# Altium footprint library converter 1000v.PcbLib: 25 footprints (part 1 of 2)
Each footprint in its own frame and in the unit in brackets; x right, y up, seen from the top. Pads: shape width x height; smd on the part's side, far side on the other; paste and mask are expansions set on the pad; w line width, h text height; cw(c..) or ccw(c..) is an arc to the next point about the centre after c.
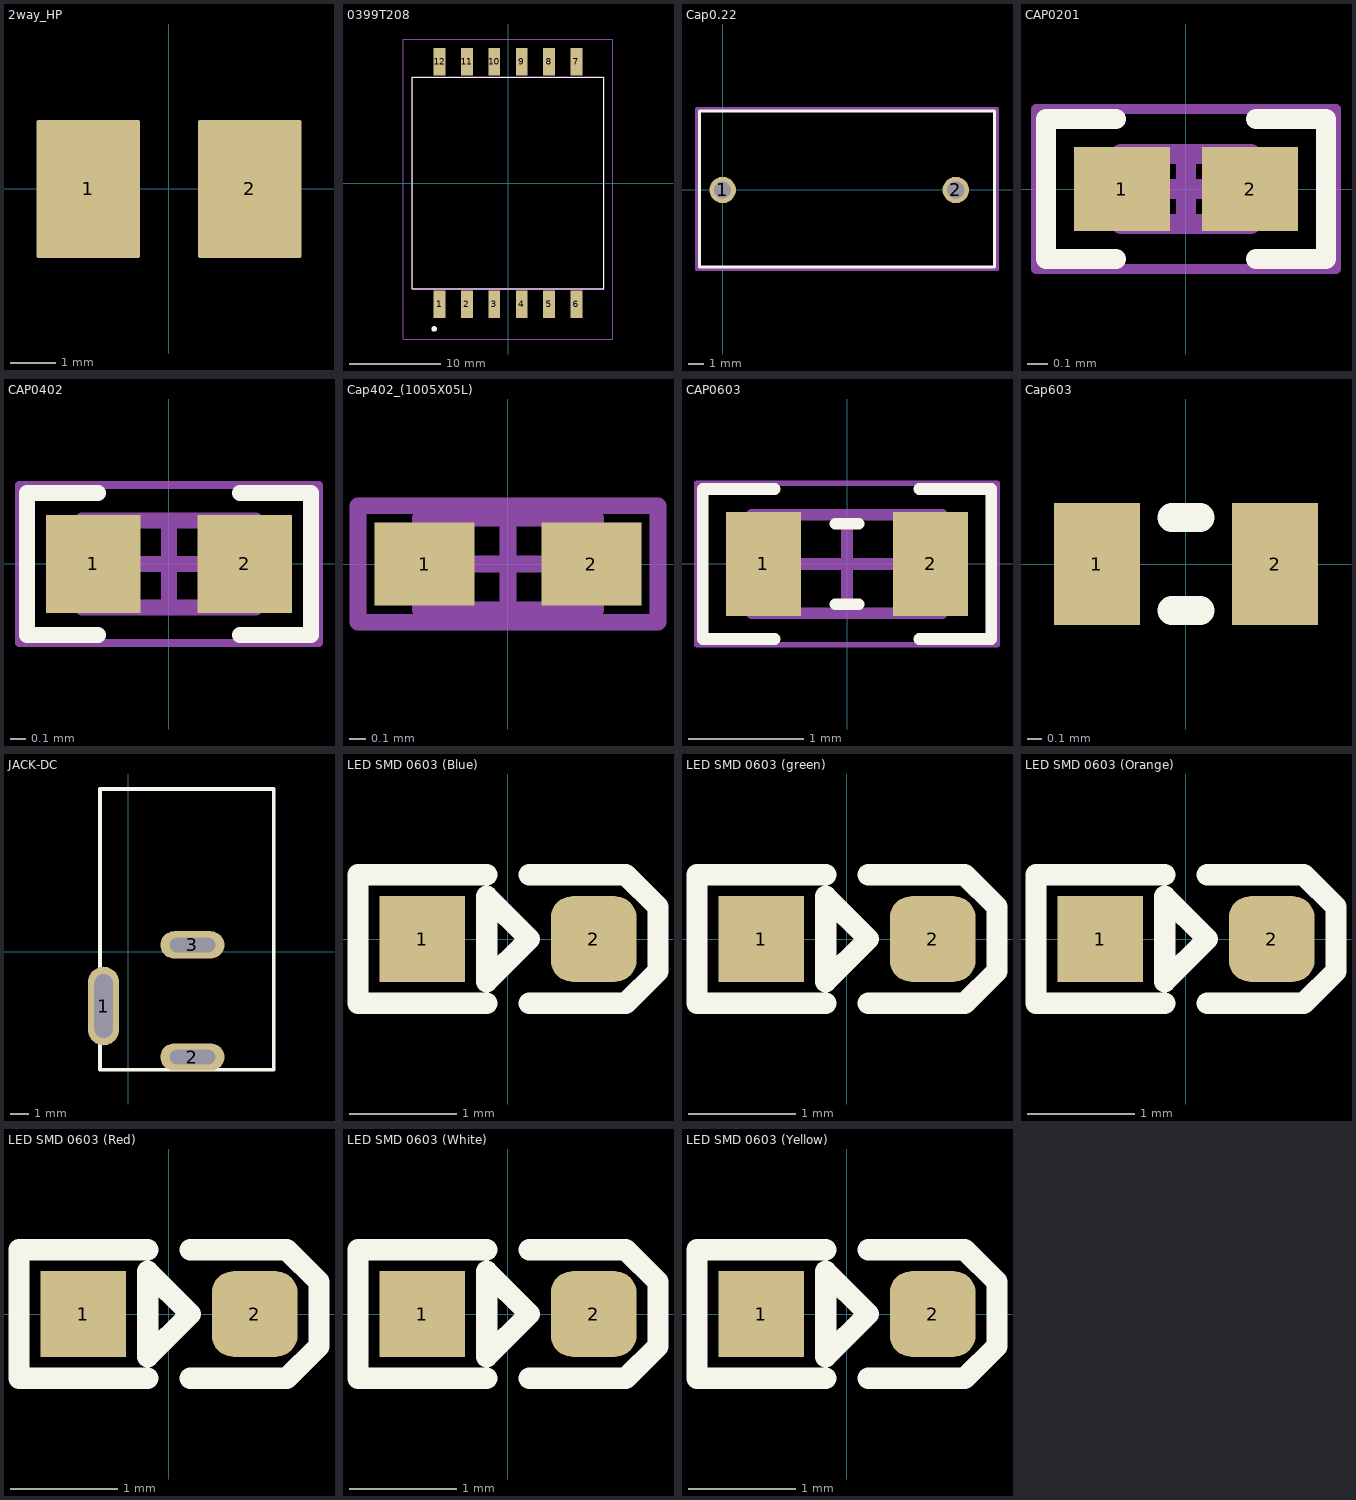
[diagram p0: the footprints below, top view; thin cyan lines are the x and y axes]

## 2way_HP [mil] "2 way high power power net tie junction"
height 1
pads (2):
  rrect5% 90x120 smd paste-100: 1(-70,0) 2(70,0)

## 0399T208 [mm]
pads (12):
  rect 1.3x3 smd: 1(-7.5,-13.3) 2(-4.5,-13.3) 3(-1.5,-13.3) 4(1.5,-13.3) 5(4.5,-13.3) 6(7.5,-13.3) 7(7.5,13.3) 8(4.5,13.3) 9(1.5,13.3) 10(-1.5,13.3) 11(-4.5,13.3) 12(-7.5,13.3)
Top Overlay:
  lines w0.1: -10.5,-11.6 -10.5,11.6 10.5,11.6 10.5,-11.6 -10.5,-11.6
  lines w0.4: -8.2,-16 ccw(c-8.1,-16) -8,-16 ccw(c-8.1,-16) -8.2,-16
Mechanical 13:
  lines w0.2: -10.5,-11.6 -10.5,11.6 10.5,11.6 10.5,-11.6 -10.5,-11.6
Mechanical 15:
  lines w0.1: -11.5,-17.1 -11.5,15.8 11.5,15.8 11.5,-17.1 -11.5,-17.1
3D body "0399-T208.stp": height 11.6, standoff -0.2, extent -10.5,-14.6 10.5,14.6

## Cap0.22 [mm]
pads (2):
  round 1.7 hole 1.1: 1(0,0) 2(15,0)
Top Overlay:
  lines w0.2: -1.5,-4.953 17.5,-4.953 17.5,5.08 -1.5,5.08 -1.5,-4.953
Mechanical 13:
  lines w0.254: -1.652,-5.08 17.652,-5.08 17.652,5.207 -1.652,5.207 -1.652,-5.08
3D body "User Library-CAP_POLY_15mm.step": height 16, standoff -4, extent -1.753,-3.936 17.247,4.064

## CAP0201 [mm] "Chip Capacitor, 2-Leads, Body 0/60x0/30mm, IPC Medium Density DESIGNER:ABBAS BASEREH"
height 0.23
pads (2):
  rect 0.48x0.42 smd mask+0.04: 1(-0.32,0) 2(0.32,0)
Top Overlay:
  lines w0.1: -0.35,-0.35 -0.7,-0.35 -0.7,0.35 -0.35,0.35 ; 0.35,-0.35 0.7,-0.35 0.7,0.35 0.35,0.35
Mechanical 13:
  lines w0.1: -0.325,-0.175 0.325,-0.175 0.325,0.175 -0.325,0.175 -0.325,-0.175
Mechanical 15:
  lines w0.05: -0.75,-0.4 0.75,-0.4 0.75,0.4 -0.75,0.4 -0.75,-0.4
  lines w0.1: -0.175,0 0.175,0 ; 0,-0.175 0,0.175
3D body "CAP0201.step": height 0.23, standoff 0, extent -0.325,-0.175 0.325,0.175

## CAP0402 [mm] "Chip Capacitor, 2-Leads, Body 1/00x0/50mm, IPC Medium Density DESIGNER:ABBAS BASEREH"
height 0.32
pads (2):
  rect 0.6x0.62 smd mask+0.06: 1(-0.48,0) 2(0.48,0)
Top Overlay:
  lines w0.1: -0.45,-0.45 -0.9,-0.45 -0.9,0.45 -0.45,0.45 ; 0.45,-0.45 0.9,-0.45 0.9,0.45 0.45,0.45
Mechanical 13:
  lines w0.1: -0.55,-0.275 0.55,-0.275 0.55,0.275 -0.55,0.275 -0.55,-0.275
Mechanical 15:
  lines w0.05: -0.95,-0.5 0.95,-0.5 0.95,0.5 -0.95,0.5 -0.95,-0.5
  lines w0.1: -0.275,0 0.275,0 ; 0,-0.275 0,0.275
3D body "CAP0402.step": height 0.32, standoff 0, extent -0.55,-0.275 0.55,0.275

## Cap402_(1005X05L) [mm] "Chip Capacitor, 2-Leads, Body 1.0x0.5mm, IPC High Density"
height 0.5
pads (2):
  rect 0.6x0.5 smd: 1(-0.5,0) 2(0.5,0)
Mechanical 13:
  lines w0.1: -0.525,-0.275 0.525,-0.275 0.525,0.275 -0.525,0.275 -0.525,-0.275
Mechanical 15:
  lines w0.1: -0.275,0 0.275,0 ; 0,-0.275 0,0.275 ; -0.9,-0.35 0.9,-0.35 0.9,0.35 -0.9,0.35 -0.9,-0.35
3D body "User Library-0402(1005M) Cap.step": height 0.51, standoff 0, extent -0.51,-0.25 0.506,0.258

## CAP0603 [mm] "Chip Capacitor, 2-Leads, Body 1/60x0/80mm, IPC Medium Density DESIGNER:ABBAS BASEREH"
height 0.4
pads (2):
  rect 0.65x0.9 smd: 1(-0.725,0) 2(0.725,0)
Top Overlay:
  lines w0.1: -0.625,-0.65 -1.25,-0.65 -1.25,0.65 -0.625,0.65 ; -0.1,-0.35 0.1,-0.35 ; -0.1,0.35 0.1,0.35 ; 0.625,-0.65 1.25,-0.65 1.25,0.65 0.625,0.65
Mechanical 13:
  lines w0.1: -0.825,-0.425 0.825,-0.425 0.825,0.425 -0.825,0.425 -0.825,-0.425
Mechanical 15:
  lines w0.05: -1.3,-0.7 1.3,-0.7 1.3,0.7 -1.3,0.7 -1.3,-0.7
  lines w0.1: -0.425,0 0.425,0 ; 0,-0.425 0,0.425
3D body "CAP0603.step": height 0.4, standoff 0, extent -0.825,-0.425 0.825,0.425

## Cap603 [mm]
pads (2):
  rect 0.6x0.85 smd: 1(-0.622,0) 2(0.622,0)
Top Overlay:
  lines w0.2: -0.1,-0.325 0.1,-0.325 ; -0.1,0.325 0.1,0.325
3D body "cap 0603.STEP": height 0.6, standoff 0, extent -0.762,-0.381 0.762,0.381

## JACK-DC [mm]
pads (3):
  oval 1.7x4.3 hole 1 slot 3.5 at 90 deg: 1(-1.339,-2.982)
  oval 3.5x1.5 hole 0.8 slot 2.5 at 0 deg: 2(3.52,-5.77) 3(3.52,0.359)
Top Overlay:
  lines w0.2: -1.532,-6.469 -1.532,8.89 7.965,8.89 7.965,-6.468 -1.532,-6.469
3D body "User Library-PowerJack-2_5x5_7mm.step": height 11, standoff -3.5, extent -1.484,-6.433 7.916,8.767

## LED SMD 0603 (Blue) [mm] "(Make www.tarahiboard.com)"
pads (2):
  rect 0.8x0.8 smd mask+0.075: 1(-0.8,0)
  rrect50% 0.8x0.8 smd mask+0.075: 2(0.8,0)
Top Overlay:
  lines w0.2: -0.2,-0.6 -1.4,-0.6 -1.4,0.6 -0.2,0.6 ; 0.2,-0.6 1.1,-0.6 1.4,-0.3 1.4,0.3 1.1,0.6 0.2,0.6 ; -0.2,-0.4 0.2,0 -0.2,0.4 -0.2,-0.4
3D body: height 0.5, standoff 0, extent -0.4,-0.3 0.4,0.3
3D body: height 0.4, standoff 0, extent -0.6,-0.4 0.6,0.4
3D body: height 0.4, standoff 0, extent -0.8,-0.4 -0.6,0.4
3D body: height 0.4, standoff 0, extent 0.6,-0.4 0.8,0.4

## LED SMD 0603 (green) [mm] "(Make www.tarahiboard.com)"
pads (2):
  rect 0.8x0.8 smd mask+0.075: 1(-0.8,0)
  rrect50% 0.8x0.8 smd mask+0.075: 2(0.8,0)
Top Overlay:
  lines w0.2: -0.2,-0.6 -1.4,-0.6 -1.4,0.6 -0.2,0.6 ; 0.2,-0.6 1.1,-0.6 1.4,-0.3 1.4,0.3 1.1,0.6 0.2,0.6 ; -0.2,-0.4 0.2,0 -0.2,0.4 -0.2,-0.4
3D body: height 0.4, standoff 0, extent 0.6,-0.4 0.8,0.4
3D body: height 0.4, standoff 0, extent -0.8,-0.4 -0.6,0.4
3D body: height 0.4, standoff 0, extent -0.6,-0.4 0.6,0.4
3D body: height 0.5, standoff 0, extent -0.4,-0.3 0.4,0.3

## LED SMD 0603 (Orange) [mm] "(Make www.tarahiboard.com)"
pads (2):
  rect 0.8x0.8 smd mask+0.075: 1(-0.8,0)
  rrect50% 0.8x0.8 smd mask+0.075: 2(0.8,0)
Top Overlay:
  lines w0.2: -0.2,-0.6 -1.4,-0.6 -1.4,0.6 -0.2,0.6 ; 0.2,-0.6 1.1,-0.6 1.4,-0.3 1.4,0.3 1.1,0.6 0.2,0.6 ; -0.2,-0.4 -0.2,0.4 0.2,0 -0.2,-0.4
3D body: height 0.4, standoff 0, extent 0.6,-0.4 0.8,0.4
3D body: height 0.4, standoff 0, extent -0.8,-0.4 -0.6,0.4
3D body: height 0.4, standoff 0, extent -0.6,-0.4 0.6,0.4
3D body: height 0.5, standoff 0, extent -0.4,-0.3 0.4,0.3

## LED SMD 0603 (Red) [mm] "(Make www.tarahiboard.com)"
pads (2):
  rect 0.8x0.8 smd mask+0.075: 1(-0.8,0)
  rrect50% 0.8x0.8 smd mask+0.075: 2(0.8,0)
Top Overlay:
  lines w0.2: -0.2,-0.6 -1.4,-0.6 -1.4,0.6 -0.2,0.6 ; 0.2,-0.6 1.1,-0.6 1.4,-0.3 1.4,0.3 1.1,0.6 0.2,0.6 ; -0.2,-0.4 -0.2,0.4 0.2,0 -0.2,-0.4
3D body: height 0.5, standoff 0, extent -0.4,-0.3 0.4,0.3
3D body: height 0.4, standoff 0, extent -0.6,-0.4 0.6,0.4
3D body: height 0.4, standoff 0, extent -0.8,-0.4 -0.6,0.4
3D body: height 0.4, standoff 0, extent 0.6,-0.4 0.8,0.4

## LED SMD 0603 (White) [mm] "(Make www.tarahiboard.com)"
pads (2):
  rect 0.8x0.8 smd mask+0.075: 1(-0.8,0)
  rrect50% 0.8x0.8 smd mask+0.075: 2(0.8,0)
Top Overlay:
  lines w0.2: -0.2,-0.6 -1.4,-0.6 -1.4,0.6 -0.2,0.6 ; 0.2,-0.6 1.1,-0.6 1.4,-0.3 1.4,0.3 1.1,0.6 0.2,0.6 ; -0.2,-0.4 0.2,0 -0.2,0.4 -0.2,-0.4
3D body: height 0.4, standoff 0, extent 0.6,-0.4 0.8,0.4
3D body: height 0.4, standoff 0, extent -0.8,-0.4 -0.6,0.4
3D body: height 0.4, standoff 0, extent -0.6,-0.4 0.6,0.4
3D body: height 0.5, standoff 0, extent -0.4,-0.3 0.4,0.3

## LED SMD 0603 (Yellow) [mm] "(Make www.tarahiboard.com)"
pads (2):
  rect 0.8x0.8 smd mask+0.075: 1(-0.8,0)
  rrect50% 0.8x0.8 smd mask+0.075: 2(0.8,0)
Top Overlay:
  lines w0.2: -0.2,-0.6 -1.4,-0.6 -1.4,0.6 -0.2,0.6 ; 0.2,-0.6 1.1,-0.6 1.4,-0.3 1.4,0.3 1.1,0.6 0.2,0.6 ; -0.2,-0.4 -0.2,0.4 0.2,0 -0.2,-0.4
3D body: height 0.5, standoff 0, extent -0.4,-0.3 0.4,0.3
3D body: height 0.4, standoff 0, extent -0.6,-0.4 0.6,0.4
3D body: height 0.4, standoff 0, extent -0.8,-0.4 -0.6,0.4
3D body: height 0.4, standoff 0, extent 0.6,-0.4 0.8,0.4

## PCBComponent_1 [mm]